# EAGLE library part ADS1118 (library wavemeter)
Texas Instruments ADS1118 ADC w Internal Reference and Temperature Sensor - X2QFN (RUG) Package
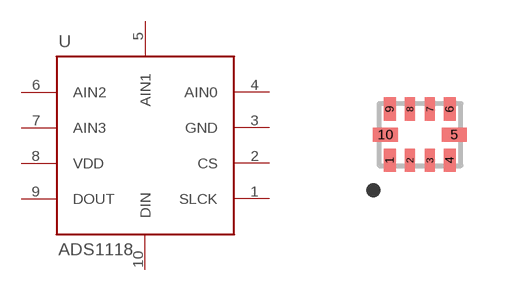
[diagram p2: symbol with the pads of ADS1118; footprint ADS1118]

Designator prefix -

## ADS1118RUG  [ADS1118]
1  SLCK
2  CS
3  GND
4  AIN0
5  AIN1
6  AIN2
7  AIN3
8  VDD
9  DOUT
10  DIN

## Footprint ADS1118 (pad centres in mm)
smd 0.3 x 0.58: 1 -0.75,-0.64; 4 0.75,-0.64; 6 0.75,0.64; 9 -0.75,0.64
smd 0.25 x 0.58: 2 -0.25,-0.64; 3 0.25,-0.64; 7 0.25,0.64; 8 -0.25,0.64
smd 0.63 x 0.35: 5 0.86,0; 10 -0.86,0